# Altium footprint library 7762311.PcbLib: 1 footprints
Each footprint in its own frame and in the unit in brackets; x right, y up, seen from the top. Pads: shape width x height; smd on the part's side, far side on the other; paste and mask are expansions set on the pad; w line width, h text height; cw(c..) or ccw(c..) is an arc to the next point about the centre after c.
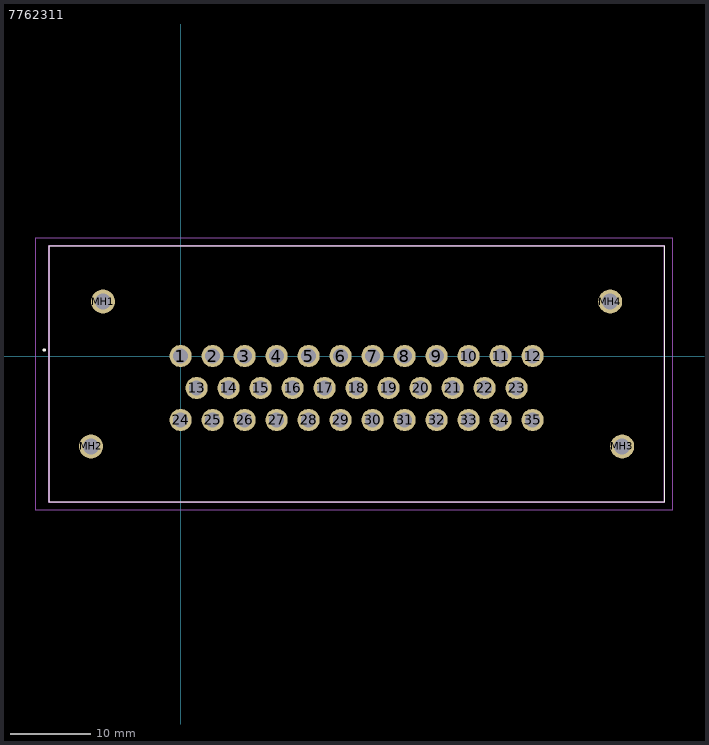
[diagram p0: the footprint, top view; thin cyan lines are the x and y axes]

## 7762311 [mm]
pads (39):
  round 2.775 hole 1.85: 1(0,0) 2(4,0) 3(8,0) 4(12,0) 5(16,0) 6(20,0) 7(24,0) 8(28,0) 9(32,0) 10(36,0) 11(40,0) 12(44,0) 13(2,-4) 14(6,-4) 15(10,-4) 16(14,-4) 17(18,-4) 18(22,-4) 19(26,-4) 20(30,-4) 21(34,-4) 22(38,-4) 23(42,-4) 24(0,-8) 25(4,-8) 26(8,-8) 27(12,-8) 28(16,-8) 29(20,-8) 30(24,-8) 31(28,-8) 32(32,-8) 33(36,-8) 34(40,-8) 35(44,-8)
  round 3 hole 2: MH1(-9.7,6.8) MH2(-11.2,-11.3) MH3(55.2,-11.3) MH4(53.7,6.8)
Top Overlay:
  lines w0.1: -16.45,-18.3 60.45,-18.3 60.45,13.8 -16.45,13.8 -16.45,-18.3
  lines w0.3: -17.1,0.75 cw(c-17.05,0.75) -17,0.75 ; -17.1,0.75 -17.1,0.75 ; -17.1,0.75 ccw(c-17.05,0.75) -17,0.75 ; -17,0.75 -17,0.75
Mechanical 15:
  lines w0.2: -16.45,-18.3 60.45,-18.3 60.45,13.8 -16.45,13.8 -16.45,-18.3
Mechanical 20:
  lines w0.1: -18.1,-19.3 61.45,-19.3 61.45,14.8 -18.1,14.8 -18.1,-19.3